# EAGLE library part VENUS838FLPX (library UpBoard B)
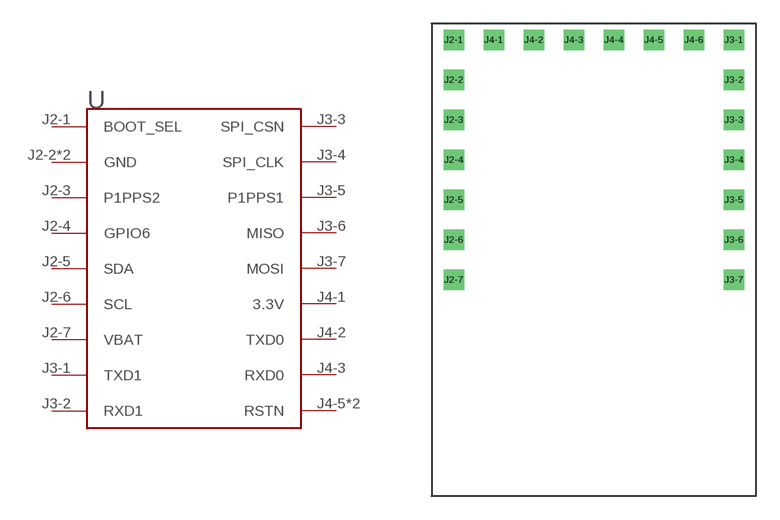
[diagram p7: symbol with the pads of VENUS838FLPX; footprint VENUS838FLPX]

Designator prefix -

## VENUS838FLPX  [VENUS838FLPX]
J2-1  BOOT_SEL
J2-2  GND
J2-3  P1PPS2
J2-4  GPIO6
J2-5  SDA
J2-6  SCL
J2-7  VBAT
J3-1  TXD1
J3-2  RXD1
J3-3  SPI_CSN
J3-4  SPI_CLK
J3-5  P1PPS1
J3-6  MISO
J3-7  MOSI
J4-1  3.3V
J4-2  TXD0
J4-3  RXD0
J4-4  GND
J4-5  RSTN
J4-6  RSTN

## Footprint VENUS838FLPX (pad centres in mm)
drill 0.8 square: J2-1 -8.89,13.97; J2-2 -8.89,11.43; J2-3 -8.89,8.89; J2-4 -8.89,6.35; J2-5 -8.89,3.81; J2-6 -8.89,1.27; J2-7 -8.89,-1.27; J3-1 8.89,13.97; J3-2 8.89,11.43; J3-3 8.89,8.89; J3-4 8.89,6.35; J3-5 8.89,3.81; J3-6 8.89,1.27; J3-7 8.89,-1.27; J4-1 -6.35,13.97; J4-2 -3.81,13.97; J4-3 -1.27,13.97; J4-4 1.27,13.97; J4-5 3.81,13.97; J4-6 6.35,13.97